# Altium footprint library Common_SMD.PcbLib: 74 footprints (part 4 of 5)
Each footprint in its own frame and in the unit in brackets; x right, y up, seen from the top. Pads: shape width x height; smd on the part's side, far side on the other; paste and mask are expansions set on the pad; w line width, h text height; cw(c..) or ccw(c..) is an arc to the next point about the centre after c.
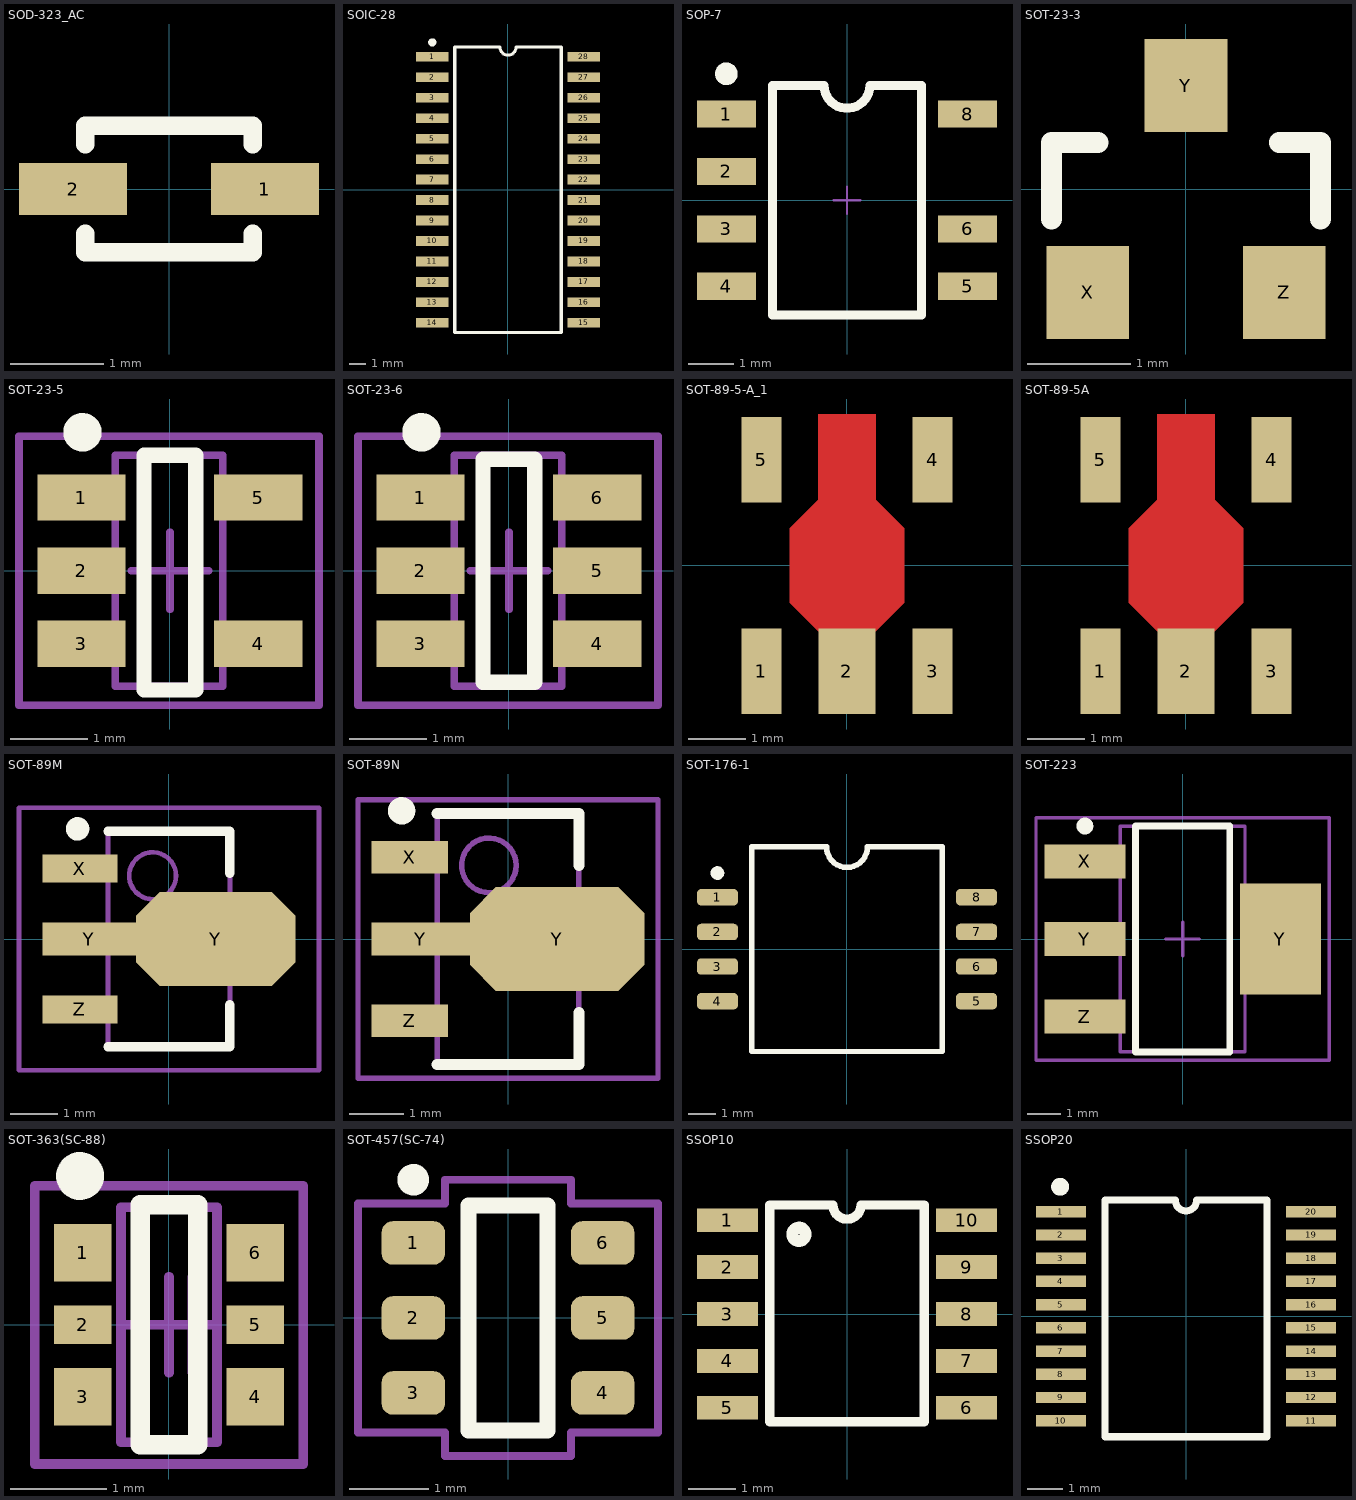
[diagram p3: the footprints below, top view; thin cyan lines are the x and y axes]

## SOD-323_AC [mm] "Площадка для диода в корпусе SOD-323"
height 1
pads (2):
  rect 1.16x0.56 smd: 1(1.03,0) 2(-1.03,0)
Top Overlay:
  lines w0.2: -0.9,-0.48 -0.9,-0.68 0.9,-0.68 0.9,-0.48 ; -0.9,0.48 -0.9,0.68 0.9,0.68 0.9,0.48
3D body "SOD-323.STEP": height 1.1, standoff 0, extent -1.3,-0.675 1.3,0.675

## SOIC-28 [mm]
pads (28):
  rect 2x0.6 smd: 1(-4.7,8.255) 2(-4.7,6.985) 3(-4.7,5.715) 4(-4.7,4.445) 5(-4.7,3.175) 6(-4.7,1.905) 7(-4.7,0.635) 8(-4.7,-0.635) 9(-4.7,-1.905) 10(-4.7,-3.175) 11(-4.7,-4.445) 12(-4.7,-5.715) 13(-4.7,-6.985) 14(-4.7,-8.255) 15(4.7,-8.255) 16(4.7,-6.985) 17(4.7,-5.715) 18(4.7,-4.445) 19(4.7,-3.175) 20(4.7,-1.905) 21(4.7,-0.635) 22(4.7,0.635) 23(4.7,1.905) 24(4.7,3.175) 25(4.7,4.445) 26(4.7,5.715) 27(4.7,6.985) 28(4.7,8.255)
Top Overlay:
  circle w0.25: c-4.698,9.144 r0.125
  lines w0.2: -3.3,-8.845 -3.3,8.855 -0.5,8.855 ccw(c0,8.855) 0.5,8.855 3.3,8.855 3.3,-8.845 -3.3,-8.845
3D body "28-SOIC.STEP": height 2.73, standoff -0.03, extent -5.15,-8.945 5.15,8.955

## SOP-7 [mm] "SOIC, 7-Leads, Body 4.9x3.9mm, Pitch 1.27mm"
height 1.75
pads (7):
  rect 1.3x0.6 smd: 1(-2.667,1.905) 2(-2.667,0.635) 3(-2.667,-0.635) 4(-2.667,-1.905) 5(2.667,-1.905) 6(2.667,-0.635) 8(2.667,1.905)
Top Overlay:
  circle w0.25: c-2.667,2.794 r0.125
  lines w0.2: -1.651,-2.54 -1.651,2.54 -0.508,2.54 ccw(c0,2.54) 0.508,2.54 1.651,2.54 1.651,-2.54 -1.651,-2.54
Mechanical 15:
  lines w0.05: -0.3,0 0.3,0 ; 0,-0.3 0,0.3
3D body "SOP-7_1.STEP": height 1.45, standoff 0, extent -2.972,-2.451 2.972,2.451

## SOT-23-3 [mm]
pads (3):
  rect 0.8x0.9 smd: X(-0.95,-1) Y(0,1) Z(0.95,-1)
Top Overlay:
  lines w0.2: -1.3,-0.29 -1.3,0.45 -0.85,0.45 ; 0.9,0.45 1.3,0.45 1.3,-0.29
3D body "SOT-23.STEP": height 1.09, standoff 0, extent -1.394,-1.224 1.4,1.202

## SOT-23-5 [mm] "SOT23, 5-Leads, Body 2.9x1.3mm, Pitch 0.95mm, Lead Span 2.3mm, IPC Medium Density"
height 1.11
pads (5):
  rect 1.15x0.6 smd: 1(-1.15,0.95) 2(-1.15,0) 3(-1.15,-0.95) 4(1.15,-0.95) 5(1.15,0.95)
Top Overlay:
  circle w0.25: c-1.137,1.8 r0.125
  lines w0.2: -0.337,-1.55 -0.337,1.5 0.337,1.5 0.337,-1.55 -0.337,-1.55
Mechanical 13:
  lines w0.1: -0.712,-1.5 -0.712,1.5 0.688,1.5 0.688,-1.5 -0.712,-1.5
Mechanical 15:
  lines w0.1: -0.5,0 0.5,0 ; 0,-0.5 0,0.5 ; -1.962,-1.75 -1.962,1.75 1.938,1.75 1.938,-1.75 -1.962,-1.75
3D body "SOT23-5.STEP": height 1.1, standoff 0, extent -1.202,-1.437 1.198,1.463

## SOT-23-6 [mm] "SOT23, 6-Leads, Body 2.9x1.3mm, Pitch 0.95mm, Lead Span 2.3mm, IPC Medium Density"
height 1.11
pads (6):
  rect 1.15x0.6 smd: 1(-1.15,0.95) 2(-1.15,0) 3(-1.15,-0.95) 4(1.15,-0.95) 5(1.15,0) 6(1.15,0.95)
Top Overlay:
  circle w0.25: c-1.137,1.8 r0.125
  lines w0.2: -0.337,-1.45 0.337,-1.45 0.337,1.45 -0.337,1.45 -0.337,-1.45
Mechanical 13:
  lines w0.1: -0.712,-1.5 0.688,-1.5 0.688,1.5 -0.712,1.5 -0.712,-1.5
Mechanical 15:
  lines w0.1: -0.5,0 0.5,0 ; 0,-0.5 0,0.5 ; -1.962,-1.75 1.938,-1.75 1.938,1.75 -1.962,1.75 -1.962,-1.75
3D body "SOT23-6.STEP": height 1.45, standoff 0, extent -1.412,-1.45 1.388,1.45

## SOT-89-5-A_1 [mm]
height 1.5
pads (5):
  rect 0.7x1.5 smd: 1(-1.5,-1.85) 3(1.5,-1.85) 4(1.5,1.85) 5(-1.5,1.85)
  rect 1x1.5 smd: 2(0,-1.85)
Top Layer:
  region: -0.5,-1.15 -1,-0.65 -1,0.65 -0.5,1.15 -0.5,2.65 0.5,2.65 0.5,1.15 1,0.65 1,-0.65 0.5,-1.15
3D body "SOT895-A-PKG.STEP": height 1.5, standoff 0, extent -2.25,-1.9 2.25,1.9

## SOT-89-5A [mm]
height 1.5
pads (5):
  rect 0.7x1.5 smd: 1(-1.5,-1.85) 3(1.5,-1.85) 4(1.5,1.85) 5(-1.5,1.85)
  rect 1x1.5 smd: 2(0,-1.85)
Top Layer:
  region: -0.5,-1.15 -1,-0.65 -1,0.65 -0.5,1.15 -0.5,2.65 0.5,2.65 0.5,1.15 1,0.65 1,-0.65 0.5,-1.15
3D body "SOT89-5.STEP": height 1.54, standoff 0, extent -2.25,-2.25 2.25,2.25

## SOT-89M [mm]
pads (4):
  rect 1.6x0.6 smd: X(-1.9,1.5) Z(-1.9,-1.5)
  rect 2x0.7 smd: Y(-1.7,0)
  oct 3.4x2 smd: Y(1,0)
Top Overlay:
  circle w0.25: c-1.95,2.35 r0.125
  lines w0.2: -1.3,-2.3 1.3,-2.3 1.3,-1.4 ; -1.3,2.3 1.3,2.3 1.3,1.4
Mechanical 13:
  circle w0.1: c-0.35,1.35 r0.5
  lines w0.1: -1.3,-2.3 -1.3,2.3 1.3,2.3 1.3,-2.3 -1.3,-2.3
Mechanical 15:
  lines w0.1: -0.5,0 0.5,0 ; 0,-0.5 0,0.5 ; -3.2,-2.8 -3.2,2.8 3.2,2.8 3.2,-2.8 -3.2,-2.8
3D body: height 1.6, standoff 0, extent -1.3,-2.3 1.3,2.3

## SOT-89N [mm] "SOT89, 3-Leads, Body 4.5x2.4 mm, Pitch 1.5mm, Lead Span 4.1mm, IPC Medium Density"
height 1.6
pads (4):
  rect 1.4x0.6 smd: X(-1.8,1.5) Z(-1.8,-1.5)
  rect 1.8x0.6 smd: Y(-1.6,0)
  oct 3.2x1.9 smd: Y(0.9,0)
Top Overlay:
  circle w0.25: c-1.95,2.35 r0.125
  lines w0.2: -1.3,-2.3 1.3,-2.3 1.3,-1.35 ; -1.3,2.3 1.3,2.3 1.3,1.35
Mechanical 13:
  circle w0.1: c-0.35,1.35 r0.5
  lines w0.1: -1.3,-2.3 1.3,-2.3 1.3,2.3 -1.3,2.3 -1.3,-2.3
Mechanical 15:
  lines w0.1: -0.5,0 0.5,0 ; 0,-0.5 0,0.5 ; -2.75,-2.55 2.75,-2.55 2.75,2.55 -2.75,2.55 -2.75,-2.55
3D body: height 1.6, standoff 0, extent -1.3,-2.3 1.3,2.3

## SOT-176-1 [mm] "SOIC, 8-Leads, Body 7.5x7.5mm, Pitch 1.27mm, FOOTPRINT (REFLOW SOLDERING)"
height 2.75
pads (8):
  rrect50% 1.5x0.6 smd: 1(-4.75,1.905) 2(-4.75,0.635) 3(-4.75,-0.635) 4(-4.75,-1.905) 5(4.75,-1.905) 6(4.75,-0.635) 7(4.75,0.635) 8(4.75,1.905)
Top Overlay:
  circle w0.25: c-4.75,2.794 r0.125
  lines w0.2: -0.75,3.748 ccw(c0,3.75) 0.75,3.749 ; -0.75,3.75 -3.5,3.75 -3.5,-3.75 3.5,-3.75 3.5,3.75 0.75,3.75

## SOT-223 [mm] "SOT-223, 4-Leads, Body 6.5x3.5mm, Pitch 2.3mm, Lead Span 7mm, IPC Medium Density"
height 1.7
pads (4):
  rect 2.4x1 smd: X(-2.9,2.3) Y(-2.9,0) Z(-2.9,-2.3)
  rect 2.4x3.3 smd: Y(2.9,0)
Top Overlay:
  circle w0.25: c-2.9,3.35 r0.125
  lines w0.2: -1.4,-3.35 -1.4,3.35 1.4,3.35 1.4,-3.35 -1.4,-3.35
Mechanical 13:
  lines w0.1: -1.85,-3.35 -1.85,3.35 1.85,3.35 1.85,-3.35 -1.85,-3.35
Mechanical 15:
  lines w0.1: -0.5,0 0.5,0 ; 0,-0.5 0,0.5 ; -4.35,-3.6 -4.35,3.6 4.35,3.6 4.35,-3.6 -4.35,-3.6
3D body "SOT-223.STEP": height 1.7, standoff 0.02, extent -3.48,-3.25 3.48,3.25

## SOT-363(SC-88) [mm] "SOT363 (SC-88), SOT323-6, SC-70-6, TSSOP-6,  6-Leads, Body 2.0x1.25mm, Pitch 0.65mm, Lead Span 2.1mm, IPC Medium Density"
height 0.95
pads (6):
  rect 0.6x0.6 smd: 1(-0.9,0.75) 3(-0.9,-0.75) 4(0.9,-0.75) 6(0.9,0.75)
  rect 0.6x0.4 smd: 2(-0.9,0) 5(0.9,0)
Top Overlay:
  circle w0.25: c-0.925,1.55 r0.125
  lines w0.2: -0.3,-1.25 -0.3,1.25 0.3,1.25 0.3,-1.25 -0.3,-1.25
Mechanical 13:
  lines w0.1: -0.5,-1.225 -0.5,1.225 0.5,1.225 0.5,-1.225 -0.5,-1.225
Mechanical 15:
  lines w0.1: -0.5,0 0.5,0 ; 0,-0.5 0,0.5 ; 0.242,-0.5 0.242,0.5 ; -1.4,-1.45 -1.4,1.45 1.4,1.45 1.4,-1.45 -1.4,-1.45
3D body "SOT363.STEP": height 1.1, standoff 0, extent -1.2,-1.1 1.2,1.1

## SOT-457(SC-74) [mm] "Корпус SOT457 (SC-74)"
height 1.1
pads (6):
  rrect50% 0.8x0.55 smd: 1(-1.2,0.95) 2(-1.2,0) 3(-1.2,-0.95) 4(1.2,-0.95) 5(1.2,0) 6(1.2,0.95)
Top Overlay:
  circle w0.2: c-1.2,1.75 r0.1
  lines w0.2: -0.5,-1.425 -0.5,1.425 0.5,1.425 0.5,-1.425 -0.5,-1.425
Mechanical 15:
  lines w0.1: -1.9,-1.45 -0.8,-1.45 -0.8,-1.75 0.8,-1.75 0.8,-1.45 1.9,-1.45 1.9,1.45 0.8,1.45 0.8,1.75 -0.8,1.75 -0.8,1.45 -1.9,1.45 -1.9,-1.45
3D body "SOT457(SC-74).STEP": height 1.01, standoff -0.02, extent -1.385,-1.5 1.386,1.5

## SSOP10 [mm] "SSOP10 package for HVLED001"
height 1.75
pads (10):
  rect 1.3x0.51 smd: 1(-2.55,2) 2(-2.55,1) 3(-2.55,0) 4(-2.55,-1) 5(-2.55,-2) 6(2.55,-2) 7(2.55,-1) 8(2.55,0) 9(2.55,1) 10(2.55,2)
Top Overlay:
  circle w0.254: c-1.025,1.7 r0.141
  lines w0.2: -1.65,-2.3 -1.65,2.325 -0.3,2.325 ccw(c0,2.325) 0.3,2.325 1.65,2.325 1.65,-2.3 -1.65,-2.3
3D body "SSOP-10.STEP": height 1.55, standoff -0.01, extent -3,-2.45 3,2.45

## SSOP20 [mm]
height 1
pads (20):
  rect 1.4x0.32 smd: 1(-3.5,2.925) 2(-3.5,2.275) 3(-3.5,1.625) 4(-3.5,0.975) 5(-3.5,0.325) 6(-3.5,-0.325) 7(-3.5,-0.975) 8(-3.5,-1.625) 9(-3.5,-2.275) 10(-3.5,-2.925) 11(3.5,-2.925) 12(3.5,-2.275) 13(3.5,-1.625) 14(3.5,-0.975) 15(3.5,-0.325) 16(3.5,0.325) 17(3.5,0.975) 18(3.5,1.625) 19(3.5,2.275) 20(3.5,2.925)
Top Overlay:
  circle w0.25: c-3.525,3.625 r0.125
  lines w0.2: -2.265,-3.375 -2.265,3.25 -0.3,3.25 ccw(c0,3.25) 0.3,3.25 2.265,3.25 2.265,-3.375 -2.265,-3.375